# EAGLE library part 2-5499206-4 (library 2-5499206-4)
20 way male straight side latch header Source: Datasheet <http://www.te.com/commerce/DocumentDelivery/DDEController?Action=showdoc&DocId=Customer Drawing5499206E1pdfEnglishENG_CD_5499206_E1.pdf2-5499206-4>
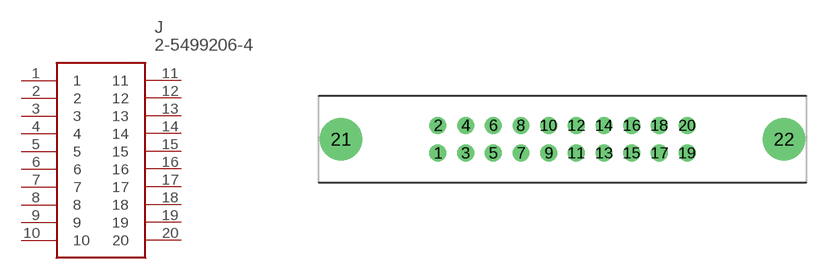
[diagram p0: symbol with the pads of 2-5499206-4; footprint 2-5499206-4]

Designator prefix J

## 2-5499206-4 (Arrow_Part_Number: 2-5499206-4; Arrow_Price-Stock: https://www.arrow.com/en/products/2-5499206-4/te-connectivity; Description: 20 way male straight side latch header; Height: mm; Manufacturer_Name: TE Connectivity; Manufacturer_Part_Number: 2-5499206-4; Mouser_Part_Number: 571-2-5499206-4; Mouser_Price-Stock: https://www.mouser.co.uk/ProductDetail/TE-Connectivity/2-5499206-4?qs=xbX7sCn4AeMB1vQAN0pf3g%3D%3D)  [2-5499206-4]
1  1
2  2
3  3
4  4
5  5
6  6
7  7
8  8
9  9
10  10
11  11
12  12
13  13
14  14
15  15
16  16
17  17
18  18
19  19
20  20

## Footprint 2-5499206-4 (pad centres in mm)
2-5499206-4
drill 0.97 pad 1.55: 1 -11.43,-1.27; 2 -11.43,1.27; 3 -8.89,-1.27; 4 -8.89,1.27; 5 -6.35,-1.27; 6 -6.35,1.27; 7 -3.81,-1.27; 8 -3.81,1.27; 9 -1.27,-1.27; 10 -1.27,1.27; 11 1.27,-1.27; 12 1.27,1.27; 13 3.81,-1.27; 14 3.81,1.27; 15 6.35,-1.27; 16 6.35,1.27; 17 8.89,-1.27; 18 8.89,1.27; 19 11.43,-1.27; 20 11.43,1.27
drill 2.69 pad 3.9: 21 -20.32,0; 22 20.32,0